# EAGLE library part MS2100 (library booz)
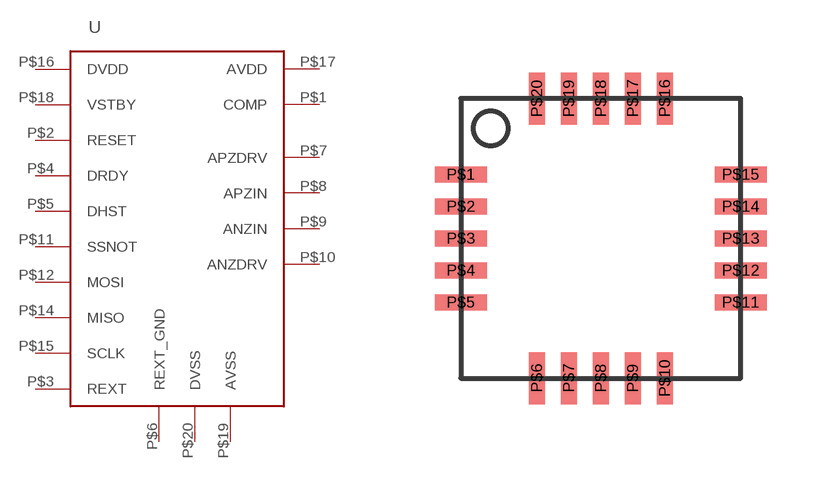
[diagram p6: symbol with the pads of QFN20; footprint QFN20]

Designator prefix -

## MS2100  [QFN20]
P$1  COMP
P$2  RESET
P$3  REXT
P$4  DRDY
P$5  DHST
P$6  REXT_GND
P$7  APZDRV
P$8  APZIN
P$9  ANZIN
P$10  ANZDRV
P$11  SSNOT
P$12  MOSI
P$14  MISO
P$15  SCLK
P$16  DVDD
P$17  AVDD
P$18  VSTBY
P$19  AVSS
P$20  DVSS

## Footprint QFN20 (pad centres in mm)
smd 1.3 x 0.4: P$1 -3.5,1.6; P$2 -3.5,0.8; P$3 -3.5,0; P$4 -3.5,-0.8; P$5 -3.5,-1.6; P$11 3.5,-1.6; P$12 3.5,-0.8; P$13 3.5,0; P$14 3.5,0.8; P$15 3.5,1.6
smd 0.4 x 1.3: P$6 -1.6,-3.5; P$7 -0.8,-3.5; P$8 0,-3.5; P$9 0.8,-3.5; P$10 1.6,-3.5; P$16 1.6,3.5; P$17 0.8,3.5; P$18 0,3.5; P$19 -0.8,3.5; P$20 -1.6,3.5